# Altium footprint library 最小系统板第二版1.PcbLib: 11 footprints
Each footprint in its own frame and in the unit in brackets; x right, y up, seen from the top. Pads: shape width x height; smd on the part's side, far side on the other; paste and mask are expansions set on the pad; w line width, h text height; cw(c..) or ccw(c..) is an arc to the next point about the centre after c.
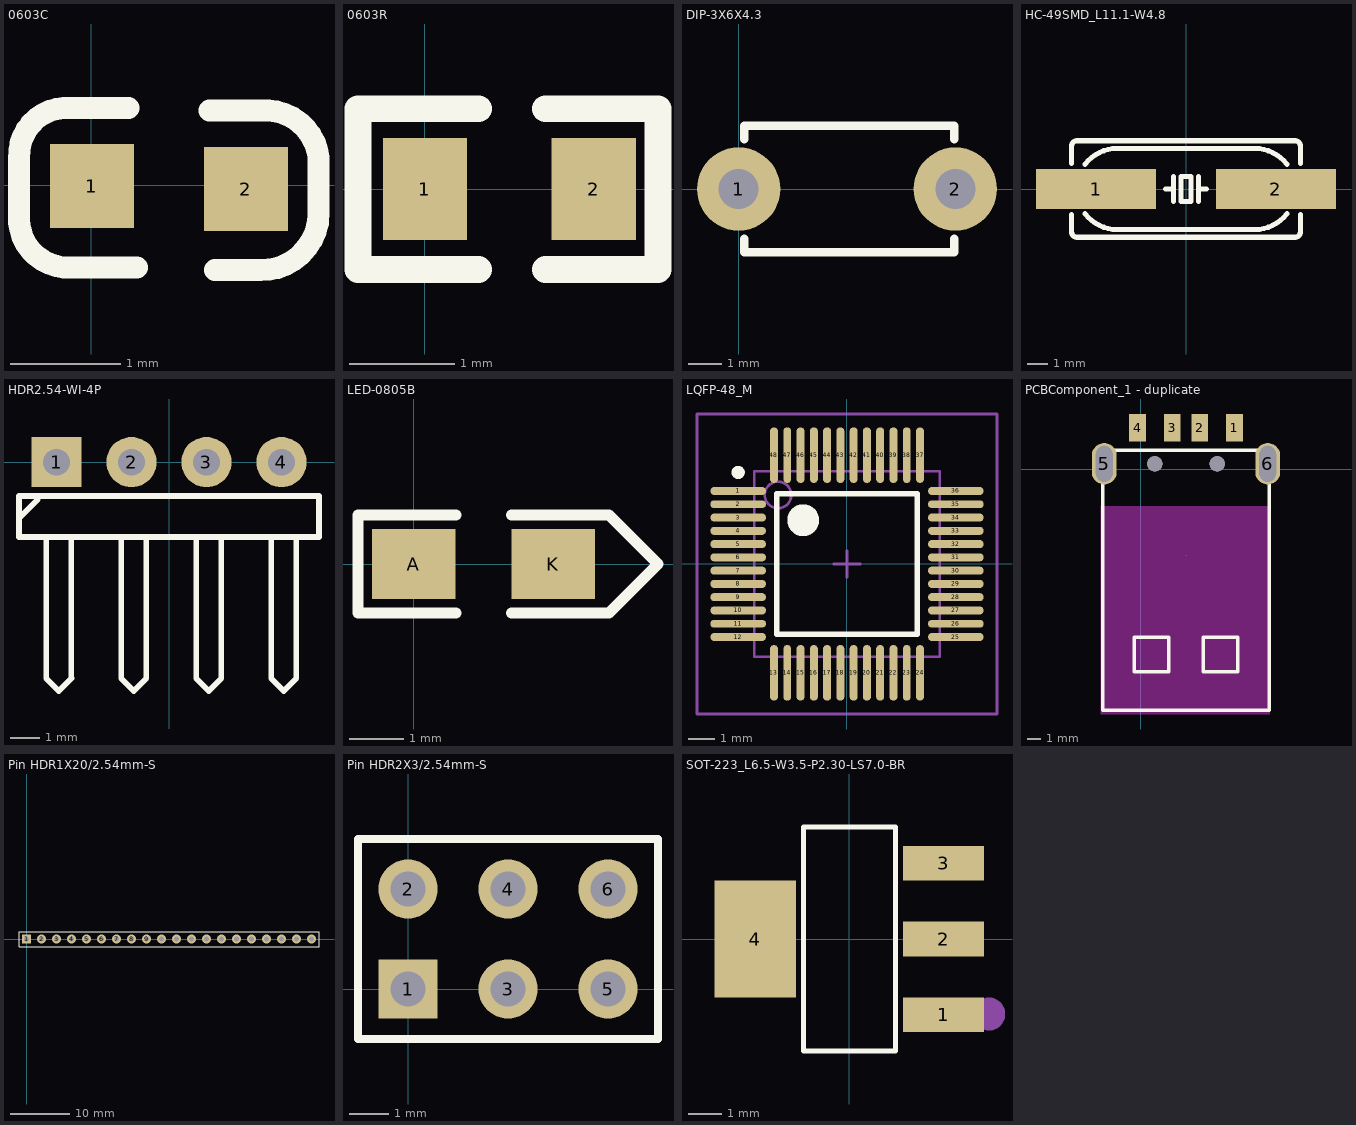
[diagram p0: the footprints below, top view; thin cyan lines are the x and y axes]

## 0603C [mil]
pads (2):
  rect 30x30 smd: 1(0.21,-0.35) 2(55.21,-1.35)
Top Overlay:
  lines w7.87: 13.21,27.65 -9.79,27.65 ccw(c-8.79,10.65) -25.79,9.65 -25.79,-10.35 ccw(c-8.29,-11.85) -9.79,-29.35 16.21,-29.35 ; 42.21,26.65 60.21,26.65 cw(c62.21,7.65) 81.21,9.65 81.21,-10.35 cw(c60.71,-9.85) 60.21,-30.35 44.21,-30.35
3D body "0603 SMD Capacitor.STEP": height 11.89, standoff 0, extent -1.49,-15 61.5,16.5

## 0603R [mm]
pads (2):
  rect 0.8x0.965 smd: 1(0,0) 2(1.6,0)
Top Overlay:
  lines w0.254: 0.508,-0.762 -0.635,-0.762 -0.635,0.762 0.508,0.762 ; 1.143,-0.762 2.21,-0.762 2.21,0.762 1.143,0.762
3D body "RES0603.STEP": height 0.45, standoff 0, extent -0.038,-0.41 1.562,0.41

## DIP-3X6X4.3 [mm]
pads (2):
  round 2.5 hole 1.2: 1(0,0) 2(6.5,0)
Top Overlay:
  lines w0.254: 0.162,-1.499 0.162,-1.9 6.462,-1.9 6.462,-1.499 ; 0.162,1.499 0.162,1.9 6.462,1.9 6.462,1.499
3D body "DIP-3X6X4.3.STEP": height 4.31, standoff -3.49, extent -0.635,-1.75 7.194,1.75

## HC-49SMD_L11.1-W4.8 [mm]
pads (2):
  rect 6x2 smd: 1(-4.5,0) 2(4.5,0)
Top Overlay:
  lines w0.254: -5.715,-1.27 -5.715,-2.159 ccw(c-5.461,-2.159) -5.461,-2.413 5.461,-2.413 ccw(c5.461,-2.159) 5.715,-2.159 5.715,-1.27 ; -5.715,1.27 -5.715,2.159 cw(c-5.461,2.159) -5.461,2.413 5.461,2.413 cw(c5.461,2.159) 5.715,2.159 5.715,1.27 ; -5.04,-1.239 ccw(c-3.429,0) -3.429,-2.032 3.429,-2.032 ccw(c3.429,0) 5.04,-1.239 ; -5.04,1.239 cw(c-3.429,0) -3.429,2.032 3.429,2.032 cw(c3.429,0) 5.04,1.239 ; -1.016,0 -0.635,0 ; -0.635,-0.635 -0.635,0 ; -0.635,0.635 -0.635,0 ; 0.635,-0.635 0.635,0 ; 0.635,0.635 0.635,0 ; 1.016,0 0.635,0 ; -0.254,-0.635 0.254,-0.635 0.254,0.635 -0.254,0.635 -0.254,-0.635

## HDR2.54-WI-4P [mm] "弯脚排针，4脚"
pads (4):
  rect 1.7x1.7 hole 0.9: 1(-3.81,0)
  round 1.7 hole 0.9: 2(-1.27,0) 3(1.27,0) 4(3.81,0)
Top Overlay:
  lines w0.2: -5.08,-1.905 -4.445,-1.27 ; -4.158,-2.54 -4.158,-7.332 -3.735,-7.755 -3.311,-7.332 -3.302,-7.323 ; -3.311,-7.323 -3.311,-2.54 ; -1.618,-2.54 -1.618,-7.332 -1.195,-7.755 -0.771,-7.332 ; -0.771,-7.323 -0.771,-2.54 ; 0.922,-2.54 0.922,-7.332 1.345,-7.755 1.769,-7.332 ; 1.769,-7.323 1.769,-2.54 ; 3.462,-2.54 3.462,-7.332 3.885,-7.755 4.309,-7.332 ; 4.309,-7.323 4.309,-2.54 ; -5.08,-2.54 5.08,-2.54 5.08,-1.143 -3.302,-1.143 -5.08,-1.143 -5.08,-2.54
3D body "HDR2.54-1P_H.STEP": height 4.85, standoff -3, extent 2.54,-7.77 5.08,1.27
3D body "HDR2.54-1P_H.STEP": height 4.85, standoff -3, extent 0,-7.77 2.54,1.27
3D body "HDR2.54-1P_H.STEP": height 4.85, standoff -3, extent -2.54,-7.77 0,1.27
3D body "HDR2.54-1P_H.STEP": height 4.85, standoff -3, extent -5.08,-7.77 -2.54,1.27

## LED-0805B [mil]
pads (2):
  rect 60x50 smd: A(0,0) K(100,0)
Top Overlay:
  lines w8: 30,-35 -40,-35 -40,35 30,35 ; 70,-35 140,-35 175,0 140,35 70,35
3D body "13.STEP": height 31.69, standoff -0.04, extent 10,-24.64 88.74,24.64

## LQFP-48_M [mm] "Thin QFP, 48-Leads, Body 7x7mm, Pitch 0.5mm, IPC Low Density"
height 1.6
pads (48):
  oval 2.1x0.3 smd: 1(-4.1,2.75) 2(-4.1,2.25) 3(-4.1,1.75) 4(-4.1,1.25) 5(-4.1,0.75) 6(-4.1,0.25) 7(-4.1,-0.25) 8(-4.1,-0.75) 9(-4.1,-1.25) 10(-4.1,-1.75) 11(-4.1,-2.25) 12(-4.1,-2.75) 25(4.1,-2.75) 26(4.1,-2.25) 27(4.1,-1.75) 28(4.1,-1.25) 29(4.1,-0.75) 30(4.1,-0.25) 31(4.1,0.25) 32(4.1,0.75) 33(4.1,1.25) 34(4.1,1.75) 35(4.1,2.25) 36(4.1,2.75)
  oval 0.3x2.1 smd: 13(-2.75,-4.1) 14(-2.25,-4.1) 15(-1.75,-4.1) 16(-1.25,-4.1) 17(-0.75,-4.1) 18(-0.25,-4.1) 19(0.25,-4.1) 20(0.75,-4.1) 21(1.25,-4.1) 22(1.75,-4.1) 23(2.25,-4.1) 24(2.75,-4.1) 37(2.75,4.1) 38(2.25,4.1) 39(1.75,4.1) 40(1.25,4.1) 41(0.75,4.1) 42(0.25,4.1) 43(-0.25,4.1) 44(-0.75,4.1) 45(-1.25,4.1) 46(-1.75,4.1) 47(-2.25,4.1) 48(-2.75,4.1)
Top Overlay:
  circle w0.6: c-1.65,1.65 r0.3
  circle w0.25: c-4.1,3.45 r0.125
  lines w0.2: -2.65,-2.65 2.65,-2.65 2.65,2.65 -2.65,2.65 -2.65,-2.65
Mechanical 13:
  circle w0.1: c-2.6,2.6 r0.5
  lines w0.1: -3.5,-3.5 3.5,-3.5 3.5,3.5 -3.5,3.5 -3.5,-3.5
Mechanical 15:
  lines w0.1: -0.5,0 0.5,0 ; 0,-0.5 0,0.5 ; -5.65,-5.65 5.65,-5.65 5.65,5.65 -5.65,5.65 -5.65,-5.65
3D body: height 1.6, standoff 0, extent -3.5,-3.5 3.5,3.5

## PCBComponent_1 - duplicate [mm]
pads (8):
  rect 1.2x2 smd: 1(6.763,3.002) 2(4.263,3.002) 3(2.263,3.002) 4(-0.237,3.002)
  oval 1.8x3 hole 1.2 slot 2.6 at 90 deg: 5(-2.637,0.402) 6(9.163,0.402)
  round 1.1 hole 1.1 unplated: ""(1.013,0.402) ""(5.513,0.402)
Top Overlay:
  lines w0.254: -2.737,0.402 -2.737,-17.398 9.263,-17.398 9.263,0.402 ; -2.737,1.402 9.263,1.402 ; -0.487,-14.598 -0.487,-12.098 2.013,-12.098 2.013,-14.598 -0.487,-14.598 ; 4.513,-14.598 4.513,-12.098 7.013,-12.098 7.013,-14.598 4.513,-14.598
Keep-Out Layer:
  board cut-out: -2.884,-2.667 9.308,-2.667 9.308,-17.653 -2.884,-17.653
Mechanical 15:
  lines w0.003: 3.263,-6.181 3.263,-6.181

## Pin HDR1X20/2.54mm-S [mm]
pads (20):
  rect 1.5x1.5 hole 0.9: 1(0,0)
  round 1.5 hole 0.9: 2(2.54,0) 3(5.08,0) 4(7.62,0) 5(10.16,0) 6(12.7,0) 7(15.24,0) 8(17.78,0) 9(20.32,0) 10(22.86,0) 11(25.4,0) 12(27.94,0) 13(30.48,0) 14(33.02,0) 15(35.56,0) 16(38.1,0) 17(40.64,0) 18(43.18,0) 19(45.72,0) 20(48.26,0)
Top Overlay:
  lines w0.2: -1.27,-1.27 -1.27,1.27 0.635,1.27 49.53,1.27 49.53,-1.27 -1.27,-1.27
3D body "HEADER.STEP": height 7.58, standoff -2.94, extent 39.37,-1.27 41.91,1.27
3D body "HEADER.STEP": height 7.58, standoff -2.94, extent 41.91,-1.27 44.45,1.27
3D body "HEADER.STEP": height 7.58, standoff -2.94, extent 44.45,-1.27 46.99,1.27
3D body "HEADER.STEP": height 7.58, standoff -2.94, extent 46.99,-1.27 49.53,1.27
3D body "HEADER.STEP": height 7.58, standoff -2.94, extent 29.21,-1.27 31.75,1.27
3D body "HEADER.STEP": height 7.58, standoff -2.94, extent 31.75,-1.27 34.29,1.27
3D body "HEADER.STEP": height 7.58, standoff -2.94, extent 34.29,-1.27 36.83,1.27
3D body "HEADER.STEP": height 7.58, standoff -2.94, extent 36.83,-1.27 39.37,1.27
3D body "HEADER.STEP": height 7.58, standoff -2.94, extent 19.05,-1.27 21.59,1.27
3D body "HEADER.STEP": height 7.58, standoff -2.94, extent 21.59,-1.27 24.13,1.27
3D body "HEADER.STEP": height 7.58, standoff -2.94, extent 24.13,-1.27 26.67,1.27
3D body "HEADER.STEP": height 7.58, standoff -2.94, extent 26.67,-1.27 29.21,1.27
3D body "HEADER.STEP": height 7.58, standoff -2.94, extent 8.89,-1.27 11.43,1.27
3D body "HEADER.STEP": height 7.58, standoff -2.94, extent 11.43,-1.27 13.97,1.27
3D body "HEADER.STEP": height 7.58, standoff -2.94, extent 13.97,-1.27 16.51,1.27
3D body "HEADER.STEP": height 7.58, standoff -2.94, extent 16.51,-1.27 19.05,1.27
3D body "HEADER.STEP": height 7.58, standoff -2.94, extent -1.27,-1.27 1.27,1.27
3D body "HEADER.STEP": height 7.58, standoff -2.94, extent 1.27,-1.27 3.81,1.27
3D body "HEADER.STEP": height 7.58, standoff -2.94, extent 3.81,-1.27 6.35,1.27
3D body "HEADER.STEP": height 7.58, standoff -2.94, extent 6.35,-1.27 8.89,1.27

## Pin HDR2X3/2.54mm-S [mm] "Connector; Header; 3x2 Position"
pads (6):
  rect 1.5x1.5 hole 0.9: 1(0,0)
  round 1.5 hole 0.9: 2(0,2.54) 3(2.54,0) 4(2.54,2.54) 5(5.08,0) 6(5.08,2.54)
Top Overlay:
  lines w0.2: 1.482,-1.27 6.35,-1.27 ; 6.35,-1.27 6.35,3.81 -1.27,3.81 -1.27,-1.27 6.35,-1.27
3D body "HEADER.STEP": height 7.58, standoff -2.94, extent 1.27,1.27 3.81,3.81
3D body "HEADER.STEP": height 7.58, standoff -2.94, extent -1.27,1.27 1.27,3.81
3D body "HEADER.STEP": height 7.58, standoff -2.94, extent 1.27,-1.27 3.81,1.27
3D body "HEADER.STEP": height 7.58, standoff -2.94, extent -1.27,-1.27 1.27,1.27
3D body "HEADER.STEP": height 7.58, standoff -2.94, extent 3.81,-1.27 6.35,1.27
3D body "HEADER.STEP": height 7.58, standoff -2.94, extent 3.81,1.27 6.35,3.81

## SOT-223_L6.5-W3.5-P2.30-LS7.0-BR [mm]
pads (4):
  rect 2.465x1.05 smd: 1(2.857,-2.3) 2(2.857,0) 3(2.857,2.3)
  rect 2.465x3.54 smd: 4(-2.857,0)
Top Overlay:
  lines w0.152: -1.396,-3.401 -1.396,3.401 1.396,3.401 1.396,-3.401 -1.396,-3.401
Mechanical 15:
  circle w0.5: c4.229,-2.277 r0.25